# EAGLE library part DRV8838 (library elric)
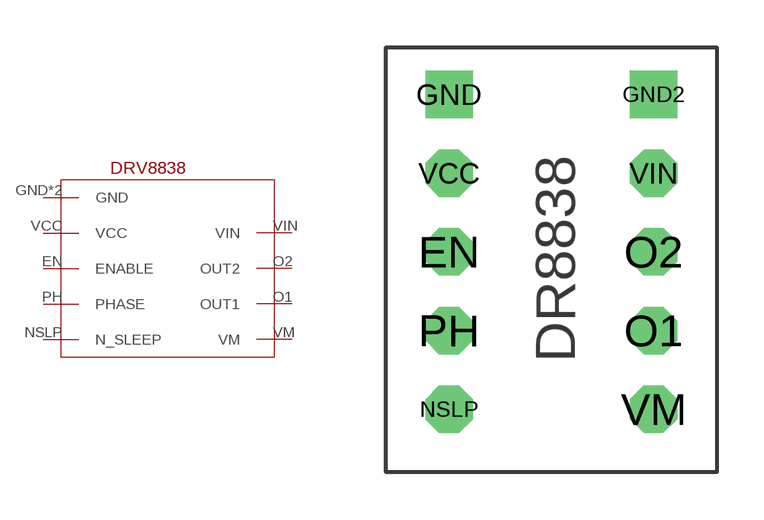
[diagram p0: symbol with the pads of DRV8838; footprint DRV8838]

Designator prefix -

## DRV8838  [DRV8838]
EN  ENABLE
GND  GND
GND2  GND
NSLP  N_SLEEP
O1  OUT1
O2  OUT2
PH  PHASE
VCC  VCC
VIN  VIN
VM  VM

## Footprint DRV8838 (pad centres in mm)
drill 1 octagon: EN 0,-5; NSLP 0,-10; O1 6.5,-7.5; O2 6.5,-5; PH 0,-7.5; VCC 0,-2.5; VIN 6.5,-2.5; VM 6.5,-10
drill 1 square: GND 0,0; GND2 6.5,0